# EAGLE library part LM2662 (library bt_regulator)
The LM2662/LM2663 CMOS charge-pump voltage converter inverts a positive voltage in the range of 1.5V to 5.5 V to the corresponding negative voltage. The LM2662/LM2663 uses two low cost capacitors to provide 200 mA of output current without the cost, size, and EMI related to inductor based converters. With an operating current of only 300 μA and operating efficiency greater than 90% at most loads, the LM2662/LM2663 provides ideal performance for battery powered systems. The LM2662/LM2663 may also be used as a positive voltage doubler. datasheet.pdf <https://rocelec.widen.net/view/pdf/cenmqdu1m5/lm2662.pdf?t.download=true&u=5oefqw>
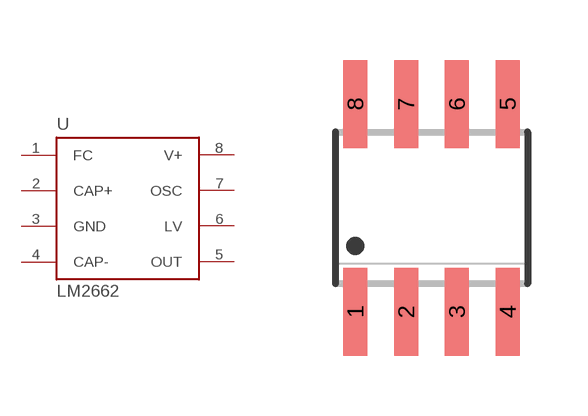
[diagram p9: symbol with the pads of SO08; footprint SO08]

Designator prefix U

## LM2662  [SO08]
1  FC
2  CAP+
3  GND
4  CAP-
5  OUT
6  LV
7  OSC
8  V+

## Footprint SO08 (pad centres in mm)
SMALL OUTLINE INTEGRATED CIRCUIT body 3.9 mm/JEDEC MS-012AA
smd 0.6 x 2.2: 1 -1.905,-2.6; 2 -0.635,-2.6; 3 0.635,-2.6; 4 1.905,-2.6; 5 1.905,2.6; 6 0.635,2.6; 7 -0.635,2.6; 8 -1.905,2.6